# EAGLE library part SIB912DK (library transistor-fet)
MOSFET 2N-CH 20V 1.5A
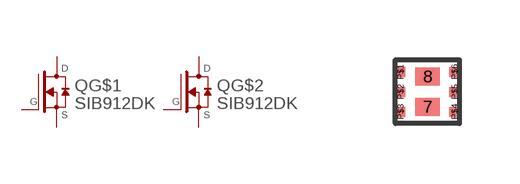
[diagram p11: symbol with the pads of POWERPAK-SC75-6L; footprint POWERPAK-SC75-6L]

Designator prefix Q; gates G$1=DMOS-N G$2=DMOS-N

## SIB912DK (DIGIKEY: SIB912DK-T1-GE3CT-ND; MFR: Vishay; MPN: SIB912DK-T1-GE3; P1I: o; VOLT: 20V)  [POWERPAK-SC75-6L]
7  G$2:D  pas
8  G$1:D  pas
P$1  G$1:S  pas
P$2  G$1:G  pas
P$3  G$2:D  pas
P$4  G$2:S  pas
P$5  G$2:G  pas
P$6  G$1:D  pas

## Footprint POWERPAK-SC75-6L (pad centres in mm)
smd 0.61 x 0.44: 7 0,-0.38; 8 0,0.38
smd 0.25 x 0.25: P$1 -0.675,0.5; P$2 -0.675,0; P$3 -0.675,-0.5; P$4 0.675,-0.5; P$5 0.675,0; P$6 0.675,0.5